# EAGLE library part FFC12 (library dan-ffc)
FFC (flat flex cable) connector - 12 positions
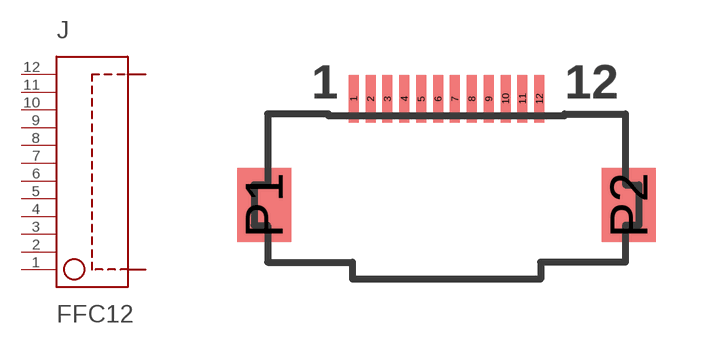
[diagram p4: symbol with the pads of MOLEX-52892-1295; footprint MOLEX-52892-1295]

Designator prefix J

## FFC12-52892-1295  [MOLEX-52892-1295]
1  P$1  pas
2  P$2  pas
3  P$3  pas
4  P$4  pas
5  P$5  pas
6  P$6  pas
7  P$7  pas
8  P$8  pas
9  P$9  pas
10  P$10  pas
11  P$11  pas
12  P$12  pas

## Footprint MOLEX-52892-1295 (pad centres in mm)
Molex 52892-1295 12 conductor, 0.5mm, right-angle, surface-mount From: http://www.molex.com/pdm_docs/sd/528923095_sd.pdf
smd 0.297 x 1.4: 1 -2.75,0; 2 -2.25,0; 3 -1.75,0; 4 -1.25,0; 5 -0.75,0; 6 -0.25,0; 7 0.25,0; 8 0.75,0; 9 1.25,0; 10 1.75,0; 11 2.25,0; 12 2.75,0
smd 1.6 x 2.2: P1 -5.4,-3.15; P2 5.4,-3.15